# Altium schematic symbol library Schlib1.SchLib: 2 symbols
Pins are listed as number, name and electrical type; pins without a type are passive.

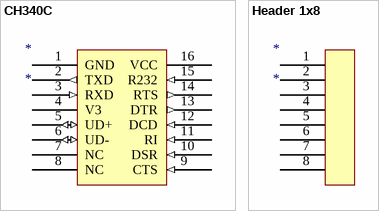
[diagram p0: symbols CH340C to Header 1x8]

## CH340C
designator *
footprint SOP16
pins: 1 GND (power), 2 TXD (out), 3 RXD (in), 4 V3, 5 UD+ (io), 6 UD- (io), 7 NC, 8 NC, 9 CTS (in), 10 DSR (in), 11 RI (in), 12 DCD (in), 13 DTR (out), 14 RTS (out), 15 R232 (in), 16 VCC (power)

## Header 1x8
designator *
footprint Header2.54mm1x8
pins: 1, 2, 3, 4, 5, 6, 7, 8